# Altium footprint library PCB - CONNECTOR - MOLEX - MOLEX 0346960100.PcbLib: 1 footprints
Each footprint in its own frame and in the unit in brackets; x right, y up, seen from the top. Pads: shape width x height; smd on the part's side, far side on the other; paste and mask are expansions set on the pad; w line width, h text height; cw(c..) or ccw(c..) is an arc to the next point about the centre after c.
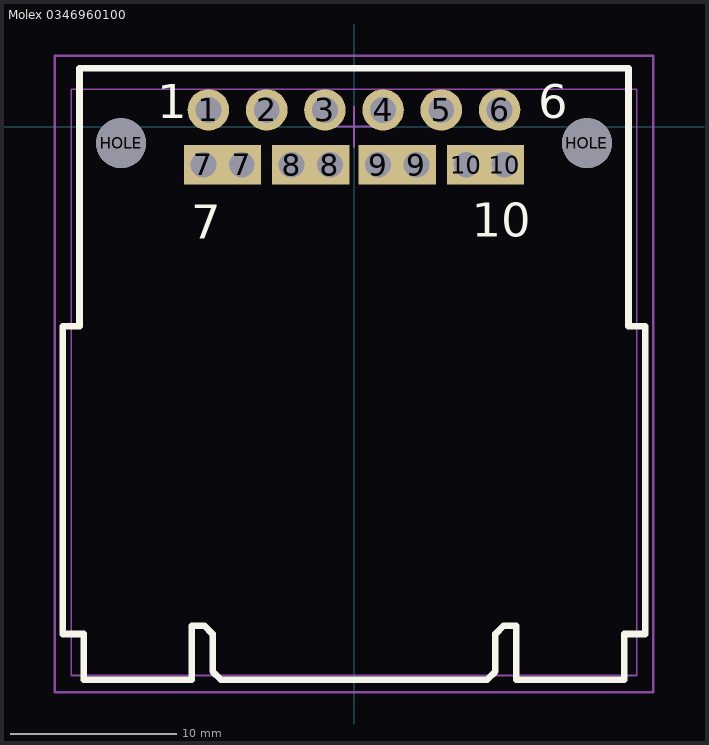
[diagram p0: the footprint, top view; thin cyan lines are the x and y axes]

## Molex 0346960100 [mm]
height 22.05
pads (16):
  round 2.5 hole 1.55 mask+0.15: 1(-8.75,1) 2(-5.25,1) 3(-1.75,1) 4(1.75,1) 5(5.25,1) 6(8.75,1)
  rect 2.35x2.35 hole 1.55 mask+0.15: 7(-9.05,-2.3) 7(-6.75,-2.3) 8(-3.75,-2.3) 8(-1.45,-2.3) 9(1.45,-2.3) 9(3.75,-2.3) 10(6.75,-2.3) 10(9.05,-2.3)
  round 3 hole 3 unplated mask+0.2: HOLE(-14,-1) HOLE(14,-1)
Top Overlay:
  lines w0.4: -17.5,-30.5 -16.25,-30.5 -16.25,-33.25 -9.75,-33.25 -9.75,-30 -9,-30 -8.5,-30.5 -8.5,-32.75 -8,-33.25 -5.75,-33.25 5.75,-33.25 8,-33.25 8.5,-32.75 8.5,-30.5 9,-30 9.75,-30 9.75,-33.25 16.25,-33.25 16.25,-30.5 17.5,-30.5 17.5,-12 16.5,-12 16.5,3.5 -16.5,3.5 -16.5,-12 -17.5,-12 -17.5,-30.5
  text "1" at -11.839,0.484 h2.03
  text "6" at 11.073,0.484 h2.03
  text "7" at -9.777,-6.741 h2.03
  text "10" at 7.076,-6.616 h2.03
Mechanical 13:
  lines w0.1: -17,-33 17,-33 17,2.25 -17,2.25 -17,-33
Mechanical 15 (Mech15):
  lines w0.1: -1.25,0 0,0 ; 0,-1.25 0,0 ; 0,1.2 0,0 ; 1.25,0 0,0
  lines w0.15: -18,-34 18,-34 18,4.25 -18,4.25 -18,-34
3D body "346960100.stp": height 22.16, standoff -3.4, extent -17.075,-32.912 17.025,2.25